# EAGLE library part TRANS-BJT_NPN-DUAL (library LITTLEBITS140915)
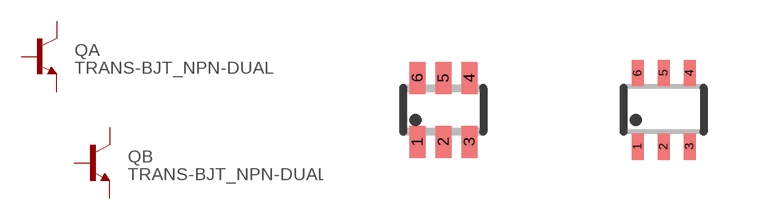
[diagram p20: symbol with the pads of SOT-363_PHILLIPS; footprints SOT-363_PHILLIPS, SOT-363_ONSEMI]

Designator prefix Q; gates A=BJT_NPN B=BJT_NPN

## TRANS-BJT_NPN-DUAL-BC847BS  [SOT-363_PHILLIPS]
1  A:E  pas
2  A:B  pas
3  B:C  pas
4  B:E  pas
5  B:B  pas
6  A:C  pas

## TRANS-BJT_NPN-DUAL-MBT2222ADW1T1-D  [SOT-363_ONSEMI]
1  B:E  pas
2  B:B  pas
3  A:C  pas
4  A:E  pas
5  A:B  pas
6  B:C  pas

## Footprint SOT-363_PHILLIPS (pad centres in mm)
smd 0.4 x 0.8: 1 -0.65,-0.8; 2 0,-0.8; 3 0.65,-0.8; 4 0.65,0.8; 5 0,0.8; 6 -0.65,0.8

## Footprint SOT-363_ONSEMI (pad centres in mm)
smd 0.3 x 0.66: 1 -0.65,-0.92; 2 0,-0.92; 3 0.65,-0.92; 4 0.65,0.92; 5 0,0.92; 6 -0.65,0.92